# Altium footprint library TjsADLib.PcbLib: 50 footprints (part 3 of 4)
Each footprint in its own frame and in the unit in brackets; x right, y up, seen from the top. Pads: shape width x height; smd on the part's side, far side on the other; paste and mask are expansions set on the pad; w line width, h text height; cw(c..) or ccw(c..) is an arc to the next point about the centre after c.
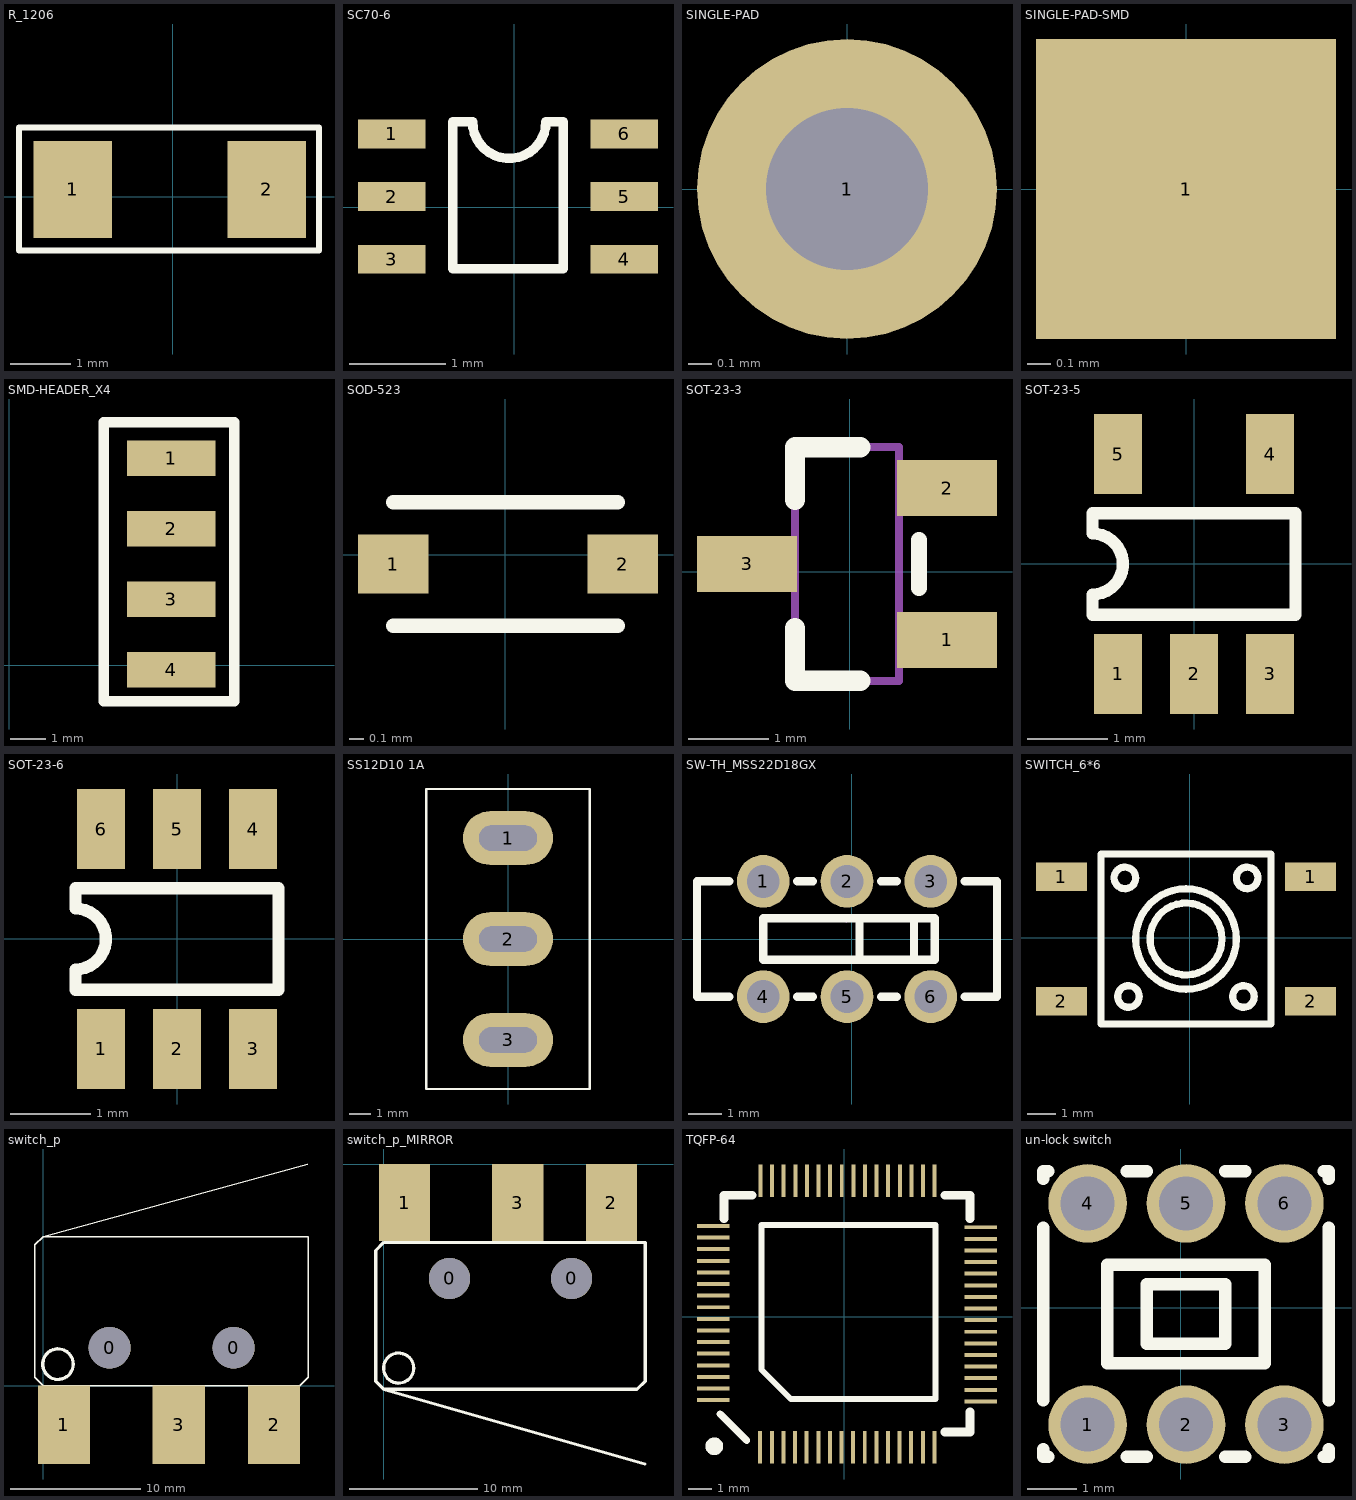
[diagram p2: the footprints below, top view; thin cyan lines are the x and y axes]

## R_1206 [mm]
pads (2):
  rect 1.3x1.6 smd: 1(-1.651,0.12) 2(1.549,0.12)
Top Overlay:
  lines w0.1: -2.54,-0.889 2.413,-0.889 2.413,1.143 -2.54,1.143 -2.54,-0.889

## SC70-6 [mm]
pads (6):
  rect 0.7x0.3 smd paste+0 mask+0.051: 1(-1.27,0.762) 2(-1.27,0.112) 3(-1.27,-0.538) 4(1.143,-0.538) 5(1.143,0.112) 6(1.143,0.762)
Top Overlay:
  lines w0.1: -0.635,-0.635 -0.635,0.889 -0.432,0.889 ccw(c-0.051,0.889) 0.33,0.889 0.508,0.889 0.508,-0.635 -0.635,-0.635

## SINGLE-PAD [mm]
pads (1):
  round 1.3 hole 0.7: 1(0,0)

## SINGLE-PAD-SMD [mm]
pads (1):
  rect 1.3x1.3 smd: 1(0,0)

## SMD-HEADER_X4 [mm]
pads (4):
  rect 2.5x1 smd: 1(4.572,5.842) 2(4.572,3.852) 3(4.572,1.863) 4(4.572,-0.127)
Top Overlay:
  lines w0.3: 2.667,-1.016 6.35,-1.016 6.35,6.858 2.667,6.858 2.667,-1.016

## SOD-523 [mm]
pads (2):
  rect 0.48x0.4 smd: 1(-0.762,-0.064) 2(0.798,-0.064)
Top Overlay:
  lines w0.1: -0.762,-0.483 0.762,-0.483 ; -0.762,0.356 0.762,0.356

## SOT-23-3 [mm]
pads (3):
  rect 1.25x0.7 smd: 1(1.217,-0.855) 2(1.217,1.045) 3(-1.283,0.095)
Top Overlay:
  lines w0.2: 0.867,-0.205 0.867,0.395
  lines w0.254: -0.683,-0.705 -0.683,-1.365 0.132,-1.365 ; 0.132,1.555 -0.683,1.555 ; -0.683,0.895 -0.683,1.555 ; -0.683,0.895 -0.683,1.555 ; -0.683,0.895 -0.683,1.555
Mechanical 13:
  lines w0.1: -0.683,-1.365 -0.683,1.555 ; -0.683,-1.365 0.617,-1.365 ; -0.683,-1.365 -0.683,1.555 ; -0.683,-1.365 0.617,-1.365 ; -0.683,-1.365 0.617,-1.365 ; -0.683,-1.365 -0.683,1.555 ; -0.683,1.555 0.617,1.555 ; -0.683,1.555 0.617,1.555 ; -0.683,1.555 0.617,1.555 ; 0.617,-1.365 0.617,1.555 ; 0.617,-1.365 0.617,1.555 ; 0.617,-1.365 0.617,1.555
3D body: height 1.3, standoff 0, extent -1.533,-1.405 1.467,1.595

## SOT-23-5 [mm]
pads (5):
  rect 0.6x1 smd paste+0 mask+0.051: 1(-0.95,-1.375) 2(0,-1.375) 3(0.95,-1.375) 4(0.95,1.375) 5(-0.95,1.375)
Top Overlay:
  lines w0.152: -1.27,-0.635 -1.27,-0.381 ccw(c-1.27,0) -1.27,0.381 -1.27,0.635 1.27,0.635 1.27,-0.635 -1.27,-0.635

## SOT-23-6 [mm]
pads (6):
  rect 0.6x1 smd paste+0 mask+0.051: 1(-0.95,-1.375) 2(0,-1.375) 3(0.95,-1.375) 4(0.95,1.375) 5(0,1.375) 6(-0.95,1.375)
Top Overlay:
  lines w0.152: -1.27,-0.635 -1.27,-0.381 ccw(c-1.27,0) -1.27,0.381 -1.27,0.635 1.27,0.635 1.27,-0.635 -1.27,-0.635

## SS12D10 1A [mm]
pads (3):
  oval 4.2x2.5 hole 1.2 slot 2.7 at 0 deg: 1(0,4.7) 2(0,0) 3(0,-4.7)
Top Overlay:
  lines w0.1: -3.81,-6.985 -3.81,6.985 3.81,6.985 3.81,-6.985 -3.81,-6.985

## SW-TH_MSS22D18GX [mm]
pads (6):
  round 1.6 hole 1: 1(-2.689,1.76) 2(-0.149,1.76) 3(2.391,1.76) 4(-2.689,-1.74) 5(-0.149,-1.74) 6(2.391,-1.74)
Top Overlay:
  lines w0.254: -3.72,-1.74 -4.699,-1.74 -4.699,1.76 -3.72,1.76 ; -1.658,-1.74 -1.18,-1.74 ; -1.658,1.76 -1.18,1.76 ; 0.882,-1.74 1.36,-1.74 ; 0.882,1.76 1.36,1.76 ; 3.422,-1.74 4.401,-1.74 4.401,1.76 3.422,1.76 ; -2.689,-0.625 -2.689,0.645 2.518,0.645 2.518,-0.625 -2.689,-0.625 ; 0.232,-0.625 0.232,0.645 1.883,0.645 1.883,-0.625 0.232,-0.625
Mechanical 15:
  lines w0.003: -0.174,0.519 -0.124,0.57

## SWITCH_6*6 [mm]
pads (4):
  rect 1.8x1 smd: 1(-4.535,2.152) 1(4.265,2.152) 2(-4.535,-2.248) 2(4.265,-2.248)
Top Overlay:
  circle w0.254: c1.897,-2.08 r0.381
  circle w0.254: c-2.167,-2.08 r0.381
  circle w0.254: c-0.135,-0.048 r1.27
  circle w0.254: c-0.135,-0.048 r1.778
  circle w0.254: c2.024,2.111 r0.381
  circle w0.254: c-2.294,2.111 r0.381
  lines w0.254: -3.135,2.952 2.865,2.952 2.865,-3.048 -3.135,-3.048 -3.135,2.952

## switch_p [mm]
pads (5):
  round 3.2 hole 3.2: 0(5.1,2.9) 0(14.6,2.9)
  rect 4x6 smd: 1(1.6,-3) 2(17.7,-3) 3(10.4,-3)
Top Overlay:
  circle w0.254: c1.143,1.651 r1.171
  lines w0.1: 20.294,16.986 0,11.43 ; 0,11.43 -0.635,10.795 -0.635,0.635 0,0 19.685,0 20.32,0.635 20.32,11.43 0,11.43

## switch_p_MIRROR [mm]
pads (5):
  round 3.2 hole 3.2: 0(5.1,-8.9) 0(14.6,-8.9)
  rect 4x6 smd: 1(1.6,-3) 2(17.7,-3) 3(10.4,-3)
Top Overlay:
  circle w0.254: c1.143,-15.875 r1.171
  lines w0.25: 20.294,-23.336 0,-17.526 ; 0,-17.526 -0.635,-16.891 -0.635,-6.731 0,-6.096 20.32,-6.096 20.32,-16.891 19.685,-17.526 0,-17.526

## TQFP-64 [mm]
height 1.2
pads (64):
  rect 0.17x1.4 smd: 1(-3.623,-5.635) 2(-3.108,-5.634) 3(-2.608,-5.634) 4(-2.108,-5.634) 5(-1.608,-5.634) 6(-1.108,-5.634) 7(-0.608,-5.634) 8(-0.108,-5.634) 9(0.392,-5.634) 10(0.892,-5.634) 11(1.392,-5.634) 12(1.892,-5.634) 13(2.392,-5.634) 14(2.892,-5.634) 15(3.392,-5.634) 16(3.892,-5.634) 33(3.901,5.855) 34(3.401,5.855) 35(2.901,5.855) 36(2.401,5.855) 37(1.901,5.855) 38(1.401,5.855) 39(0.901,5.855) 40(0.401,5.855) 41(-0.099,5.855) 42(-0.599,5.855) 43(-1.099,5.855) 44(-1.599,5.855) 45(-2.099,5.855) 46(-2.599,5.855) 47(-3.099,5.855) 48(-3.599,5.855)
  rect 1.4x0.17 smd: 17(5.888,-3.654) 18(5.888,-3.154) 19(5.888,-2.654) 20(5.888,-2.154) 21(5.888,-1.654) 22(5.888,-1.154) 23(5.888,-0.654) 24(5.888,-0.154) 25(5.888,0.346) 26(5.888,0.846) 27(5.888,1.346) 28(5.888,1.846) 29(5.888,2.346) 30(5.888,2.846) 31(5.888,3.346) 32(5.888,3.846) 49(-5.634,3.901) 50(-5.634,3.401) 51(-5.634,2.901) 52(-5.634,2.401) 53(-5.634,1.901) 54(-5.634,1.401) 55(-5.634,0.901) 56(-5.634,0.401) 57(-5.634,-0.099) 58(-5.634,-0.599) 59(-5.634,-1.099) 60(-5.634,-1.599) 61(-5.634,-2.099) 62(-5.634,-2.599) 63(-5.634,-3.099) 64(-5.634,-3.599)
Top Overlay:
  circle w0.508: c-5.588,-5.588 r0.127
  lines w0.254: -3.556,-2.286 -3.556,3.937 3.937,3.937 3.937,-3.556 -2.286,-3.556 -3.556,-2.286
  lines w0.3: -5.334,-4.191 -4.191,-5.334
  lines w0.381: -5.173,4.225 -5.173,5.227 -3.957,5.227 ; 4.338,-4.973 5.427,-4.973 5.427,-4.098 ; 4.338,5.227 5.427,5.227 5.427,4.225

## un-lock switch [mm]
pads (6):
  round 1.6 hole 1.1: 1(-1.894,-2.375) 2(0.106,-2.375) 3(2.106,-2.375) 4(-1.894,2.125) 5(0.106,2.125) 6(2.106,2.125)
Top Overlay:
  lines w0.254: -2.794,-2.876 -2.794,-3.025 -2.694,-3.025 ; -2.794,-1.874 -2.794,1.624 ; -2.794,2.625 -2.794,2.775 -2.694,2.775 ; -1.094,-3.025 -0.694,-3.025 ; -1.094,2.775 -0.694,2.775 ; 0.906,-3.025 1.306,-3.025 ; 0.906,2.775 1.306,2.775 ; 2.906,-3.025 3.006,-3.025 3.006,-2.876 ; 2.906,2.775 3.006,2.775 3.006,2.625 ; 3.006,-1.874 3.006,1.624 ; -1.494,-1.125 -1.494,0.875 1.706,0.875 1.706,-1.125 -1.494,-1.125 ; -0.694,-0.725 -0.694,0.275 -0.694,0.475 0.906,0.475 0.906,-0.725 -0.694,-0.725
Mechanical 15:
  lines w0.003: 0.081,0.434 0.131,0.485